# Altium integrated library Res.IntLib: 445 symbols (part 2 of 2)
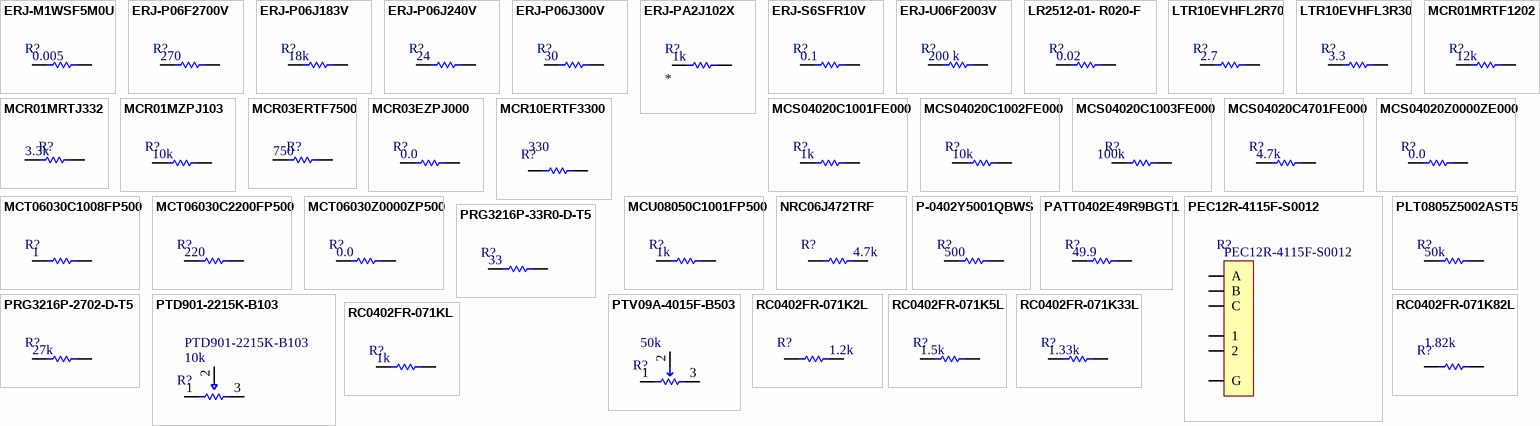
[diagram p12: symbols ERJ-M1WSF5M0U to RC0402FR-071KL]

## PTD901-2215K-B103
designator R?  value 10k  MPN: PTD901-2215K-B103  (hidden comment: *)
Potentiometer 10KOhms 20% 3P TH Center Detent PTD90 Series PANEL CONTROL 9MM-ST-CARBON 15mm Knurled Type Shaft; MFT: Bourns; APN: RV-103-X1-B; RATING: *; LOAD: *; TYPE: *
footprint BOURNS_PTD901
pins: 1 CCW, 2 WIPER, 3 CW

## PTV09A-4015F-B503
designator R?  value 50k  (hidden comment: *)
POT 50K OHM 1/20W CARBON LINEAR; MPN: PTV09A-4015F-B503; MFT: Bourns Inc.; RATING: 0.05W, 1/20W; TYPE: Through Hole, Snap In
footprint PTV09A-4015F-B503
pins: 1, 2, 3

## RC0402FR-071K2L
designator R?  value 1.2k  (hidden comment: *)
RES SMD 1.2K OHM 1% 1/16W 0402; MPN: RC0402FR-071K2L; MFT: Yageo; APN: *; RATING: 1/16W; LOAD: *; TYPE: SMD
footprint RESC1005X40N
pins: 1, 2

## RC0402FR-071K5L
designator R?  value 1.5k  (hidden comment: *)
RES SMD 1.5K OHM 1% 1/16W 0402; MPN: RC0402FR-071K5L; MFT: Yageo; APN: RQ-0154-R7-C; TYPE: SMD; RATING: 1% 1/16W; LOAD: *
footprint R0402
footprint RESC1005X40N
pins: 1, 2

## RC0402FR-071K33L
designator R?  value 1.33k  (hidden comment: *)
RES SMD 1.33K OHM 1% 1/16W 0402; MPN: RC0402FR-071K33L; MFT: Yageo; RATING: 0.063W, 1/16W; TYPE: Surface Mount
footprint R0402
pins: 1, 2

## RC0402FR-071K82L
designator R?  value 1.82k  (hidden comment: *)
RES SMD 1.82K OHM 1% 1/16W 0402; MPN: RC0402FR-071K82L; MFT: Yageo; TYPE: Surface Mount; RATING: 1% 1/16W
footprint R0402
pins: 1, 2

## RC0402FR-071KL
designator R?  value 1k  (hidden comment: *)
RES SMD 1K OHM 1% 1/16W 0402; MPN: RC0402FR-071KL; MFT: Yageo; RATING: 0.063W, 1/16W; TYPE: Surface Mount
footprint R0402
pins: 1, 2

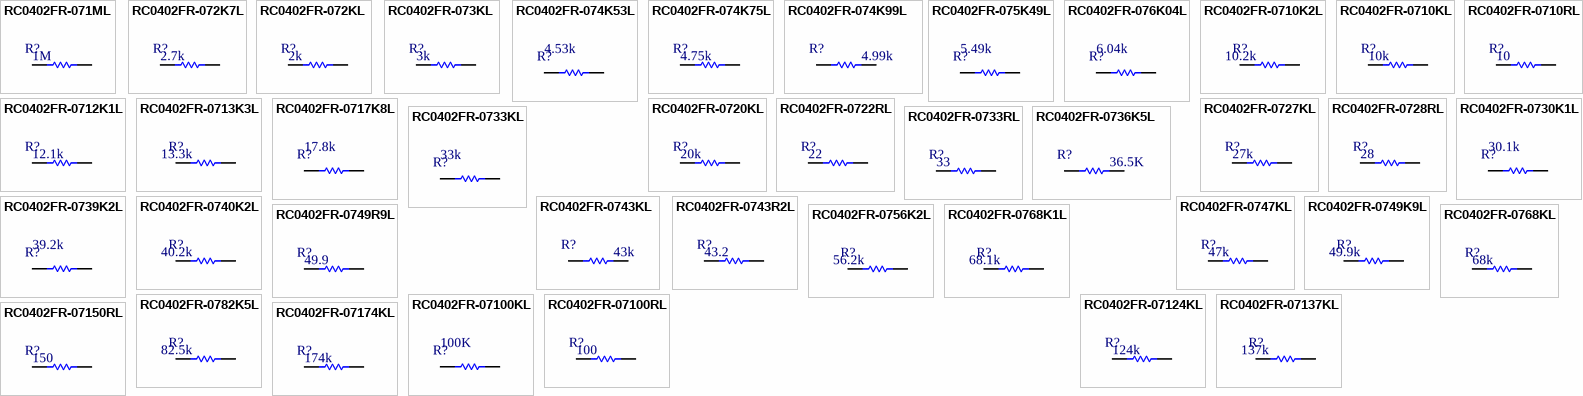
[diagram p6: symbols RC0402FR-071ML to RC0402FR-07174KL]

## RC0402FR-071ML
designator R?  value 1M  (hidden comment: *)
RES SMD 1M OHM 1% 1/16W 0402; MPN: RC0402FR-071ML; MFT: Yageo; TYPE: SMD; RATING: 1% 1/16W; LOAD: *
footprint R0402
pins: 1, 2

## RC0402FR-072K7L
designator R?  value 2.7k  (hidden comment: *)
RES SMD 2.7K OHM 1% 1/16W 0402; MPN: RC0402FR-072K7L; MFT: Yageo; TYPE: Surface Mount
footprint R0402
pins: 1, 2

## RC0402FR-072KL
designator R?  value 2k  (hidden comment: *)
RES SMD 2K OHM 1% 1/16W 0402; MPN: RC0402FR-072KL; MFT: Yageo; RATING: 1% 1/16W; TYPE: Surface Mount
footprint R0402
pins: 1, 2

## RC0402FR-073KL
designator R?  value 3k  (hidden comment: *)
RES SMD 3K OHM 1% 1/16W 0402; MPN: RC0402FR-073KL; MFT: Yageo; TYPE: Surface Mount; RATING: 1% 1/16W
footprint R0402
pins: 1, 2

## RC0402FR-074K53L
designator R?  value 4.53k  (hidden comment: *)
RES SMD 4.53K OHM 1% 1/16W 0402; MPN: RC0402FR-074K53L; MFT: Yageo; RATING: 1% 1/16W; TYPE: Surface Mount
footprint R0402
pins: 1, 2

## RC0402FR-074K75L
designator R?  value 4.75k  (hidden comment: *)
RES SMD 4.75K OHM 1% 1/16W 0402; MPN: RC0402FR-074K75L; MFT: Yageo; LOAD: *; TYPE: SMD; RATING: 1/16W
footprint R0402
pins: 1, 2

## RC0402FR-074K99L
designator R?  value 4.99k  (hidden comment: *)
RES SMD 4.99K OHM 1% 1/16W 0402; MPN: RC0402FR-074K99L; MFT: Yageo; LOAD: *; TYPE: SMD; RATING: 1/16W
footprint R0402
pins: 1, 2

## RC0402FR-075K49L
designator R?  value 5.49k  (hidden comment: *)
RES SMD 5.49K OHM 1% 1/16W 0402; MPN: RC0402FR-075K49L; MFT: Yageo; RATING: 1% 1/16W; TYPE: Surface Mount
footprint R0402
pins: 1, 2

## RC0402FR-076K04L
designator R?  value 6.04k  (hidden comment: *)
RES SMD 6.04K OHM 1% 1/16W 0402; MPN: RC0402FR-076K04L; MFT: Yageo; RATING: ±1%; TYPE: Surface Mount
footprint R0402
pins: 1, 2

## RC0402FR-0710K2L
designator R?  value 10.2k  (hidden comment: *)
RES SMD 10.2K OHM 1% 1/16W 0402; MPN: RC0402FR-0710K2L; MFT: Yageo; TYPE: SMD; RATING: 1/16W; LOAD: *
footprint R0402
pins: 1, 2

## RC0402FR-0710KL
designator R?  value 10k  (hidden comment: *)
RES SMD 10K OHM 1% 1/16W 0402; MPN: RC0402FR-0710KL; MFT: Yageo; RATING: ±1%; TYPE: Surface Mount
footprint R0402
pins: 1, 2

## RC0402FR-0710RL
designator R?  value 10  (hidden comment: *)
RES SMD 10 OHM 1% 1/16W 0402; MPN: RC0402FR-0710RL; MFT: Yageo; TYPE: SMD; RATING: 1% 1/16W; LOAD: *
footprint R0402
pins: 1, 2

## RC0402FR-0712K1L
designator R?  value 12.1k  (hidden comment: *)
RES SMD 12.1K OHM 1% 1/16W 0402; MPN: RC0402FR-0712K1L; MFT: Yageo; TYPE: SMD; RATING: 1% 1/16W; LOAD: *
footprint R0402
pins: 1, 2

## RC0402FR-0713K3L
designator R?  value 13.3k  (hidden comment: *)
RES SMD 13.3K OHM 1% 1/16W 0402; MPN: RC0402FR-0713K3L; MFT: Yageo; TYPE: SMD; RATING: 1/16W; LOAD: *
footprint R0402
pins: 1, 2

## RC0402FR-0717K8L
designator R?  value 17.8k  (hidden comment: *)
RES SMD 17.8K OHM 1% 1/16W 0402; MPN: RC0402FR-0717K8L; MFT: Yageo; TYPE: Surface Mount; RATING: 1%
footprint R0402
pins: 1, 2

## RC0402FR-0720KL
designator R?  value 20k  (hidden comment: *)
RES SMD 20K OHM 1% 1/16W 0402; MPN: RC0402FR-0720KL; RATING: 0.063W; MFT: Yageo; TYPE: Surface Mount
footprint R0402
pins: 1, 2

## RC0402FR-0722RL
designator R?  value 22  (hidden comment: *)
RES SMD 22 OHM 1% 1/16W 0402; MPN: RC0402FR-0722RL; MFT: Yageo; TYPE: SMD; RATING: 1% 1/16W; LOAD: *
footprint R0402
pins: 1, 2

## RC0402FR-0727KL
designator R?  value 27k  (hidden comment: *)
RES SMD 27K OHM 1% 1/16W 0402; MPN: RC0402FR-0727KL; MFT: Yageo; TYPE: SMD; RATING: 1% 1/16W; LOAD: *
footprint R0402
pins: 1, 2

## RC0402FR-0728RL
designator R?  value 28  (hidden comment: *)
RES SMD 28 OHM 1% 1/16W 0402; MPN: RC0402FR-0728RL; MFT: Yageo; TYPE: Surface Mount
footprint R0402
pins: 1, 2

## RC0402FR-0730K1L
designator R?  value 30.1k  (hidden comment: *)
RES SMD 30.1K OHM 1% 1/16W 0402; MPN: RC0402FR-0730K1L; MFT: Yageo; TYPE: Surface Mount
footprint R0402
pins: 1, 2

## RC0402FR-0733KL
designator R?  value 33k  (hidden comment: *)
RES SMD 33K OHM 1% 1/16W 0402; MPN: RC0402FR-0733KL; MFT: Yageo; RATING: 1% 1/16W; TYPE: Surface Mount
footprint R0402
pins: 1, 2

## RC0402FR-0733RL
designator R?  value 33  (hidden comment: *)
RES SMD 33 OHM 1% 1/16W 0402; MPN: RC0402FR-0733RL; MFT: Yageo; TYPE: Surface Mount
footprint R0402
pins: 1, 2

## RC0402FR-0736K5L
designator R?  value 36.5K  (hidden comment: *)
RES SMD 36.5K OHM 1% 1/16W 0402; MPN: RC0402FR-0736K5L; MFT: Yageo; LOAD: *; TYPE: SMD; RATING: 1/16W
footprint R0402
pins: 1, 2

## RC0402FR-0739K2L
designator R?  value 39.2k  (hidden comment: *)
RES SMD 39.2K OHM 1% 1/16W 0402; MPN: RC0402FR-0739K2L; MFT: Yageo; TYPE: Surfave Mount; RATING: 1% 1/16W
footprint R0402
pins: 1, 2

## RC0402FR-0740K2L
designator R?  value 40.2k  (hidden comment: *)
RES SMD 40.2K OHM 1% 1/16W 0402; MPN: RC0402FR-0740K2L; MFT: Yageo; TYPE: SMD; RATING: 1/16W; LOAD: *
footprint R0402
pins: 1, 2

## RC0402FR-0743KL
designator R?  value 43k  (hidden comment: *)
RES SMD 43K OHM 1% 1/16W 0402; MPN: RC0402FR-0743KL; MFT: Yageo; APN: RQ-0433-R7-C; RATING: 1/16W; LOAD: *; TYPE: SMD
footprint RESC1005X40N
pins: 1, 2

## RC0402FR-0743R2L
designator R?  value 43.2  (hidden comment: *)
RES SMD 43.2 OHM 1% 1/16W 0402; MPN: RC0402FR-0743R2L; MFT: Yageo; TYPE: SMD; RATING: 1/16W; LOAD: *
footprint R0402
pins: 1, 2

## RC0402FR-0747KL
designator R?  value 47k  (hidden comment: *)
RES SMD 47K OHM 1% 1/16W 0402; MPN: RC0402FR-0747KL; MFT: Yageo; APN: RQ-0473-R7-C; LOAD: *; TYPE: SMD; RATING: 1/16W
footprint R0402
footprint RESC1005X40N
pins: 1, 2

## RC0402FR-0749K9L
designator R?  value 49.9k  (hidden comment: *)
RES SMD 49.9K OHM 1% 1/16W 0402; MPN: RC0402FR-0749K9L; MFT: Yageo; TYPE: SMD; RATING: 1/16W; LOAD: *
footprint R0402
pins: 1, 2

## RC0402FR-0749R9L
designator R?  value 49.9  (hidden comment: *)
RES SMD 49.9 OHM 1% 1/16W 0402; MPN: RC0402FR-0749R9L; MFT: Yageo; RATING: ±1%; TYPE: Surface Mount
footprint R0402
pins: 1, 2

## RC0402FR-0756K2L
designator R?  value 56.2k  (hidden comment: *)
RES SMD 56.2K OHM 1% 1/16W 0402; MPN: RC0402FR-0756K2L; MFT: Yageo; TYPE: SMD; RATING: 1/16W; LOAD: *
footprint R0402
pins: 1, 2

## RC0402FR-0768K1L
designator R?  value 68.1k  (hidden comment: *)
RES SMD 68.1K OHM 1% 1/16W 0402; MPN: RC0402FR-0768K1L; MFT: Yageo; TYPE: SMD; RATING: 1/16W; LOAD: *
footprint R0402
pins: 1, 2

## RC0402FR-0768KL
designator R?  value 68k  (hidden comment: *)
RES SMD 68K OHM 1% 1/16W 0402; MPN: RC0402FR-0768KL; MFT: Yageo; RATING: 0.063W; TYPE: Surface Mount
footprint R0402
pins: 1, 2

## RC0402FR-0782K5L
designator R?  value 82.5k  (hidden comment: *)
RES SMD 82.5K OHM 1% 1/16W 0402; MPN: RC0402FR-0782K5L; MFT: Yageo; TYPE: SMD; RATING: 1/16W; LOAD: *
footprint R0402
pins: 1, 2

## RC0402FR-07100KL
designator R?  value 100K  (hidden comment: *)
RES SMD 100K OHM 1% 1/16W 0402; MPN: RC0402FR-07100KL; MFT: Yageo; TYPE: Surface Mount; RATING: 1% 1/16W
footprint R0402
pins: 1, 2

## RC0402FR-07100RL
designator R?  value 100  (hidden comment: *)
RES SMD 100 OHM 1% 1/16W 0402; MPN: RC0402FR-07100RL; MFT: Yageo; RATING: ±1%; TYPE: Surface Mount
footprint R0402
pins: 1, 2

## RC0402FR-07124KL
designator R?  value 124k  (hidden comment: *)
RES SMD 124K OHM 1% 1/16W 0402; MPN: RC0402FR-07124KL; MFT: Yageo; RATING: 1/16W; TYPE: SMD; LOAD: *
footprint R0402
pins: 1, 2

## RC0402FR-07137KL
designator R?  value 137k  (hidden comment: *)
RES SMD 137K OHM 1% 1/16W 0402; MPN: RC0402FR-07137KL; MFT: Yageo; TYPE: SMD; RATING: 1/16W; LOAD: *
footprint R0402
pins: 1, 2

## RC0402FR-07150RL
designator R?  value 150  (hidden comment: *)
RES SMD 150 OHM 1% 1/16W 0402; MPN: RC0402FR-07150RL; MFT: Yageo; RATING: ±1%; TYPE: Surface Mount
footprint R0402
pins: 1, 2

## RC0402FR-07174KL
designator R?  value 174k  (hidden comment: *)
RES SMD 174K OHM 1% 1/16W 0402; MPN: RC0402FR-07174KL; MFT: Yageo; RATING: 0.063W; TYPE: Surface Mount
footprint R0402
pins: 1, 2

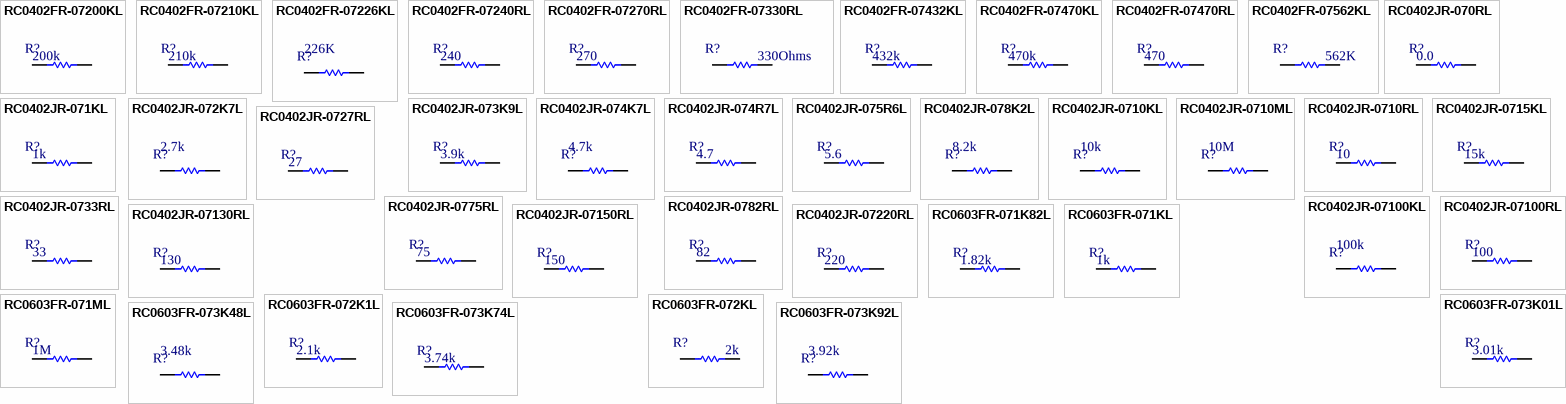
[diagram p7: symbols RC0402FR-07200KL to RC0603FR-073K92L]

## RC0402FR-07200KL
designator R?  value 200k  (hidden comment: *)
RES SMD 200K OHM 1% 1/16W 0402; MPN: RC0402FR-07200KL; MFT: Yageo; RATING: 0.063W, 1/16W; TYPE: Surface Mount
footprint R0402
pins: 1, 2

## RC0402FR-07210KL
designator R?  value 210k  (hidden comment: *)
RES SMD 210K OHM 1% 1/16W 0402; MPN: RC0402FR-07210KL; MFT: Yageo; TYPE: SMD; RATING: 1/16W; LOAD: *
footprint R0402
pins: 1, 2

## RC0402FR-07226KL
designator R?  value 226K  (hidden comment: *)
RES SMD 226K OHM 1% 1/16W 0402; MPN: RC0402FR-07226KL; MFT: Yageo; RATING: 1% 1/16W; TYPE: Surface Mount
footprint R0402
pins: 1, 2

## RC0402FR-07240RL
designator R?  value 240  (hidden comment: *)
RES SMD 240 OHM 1% 1/16W 0402; MPN: RC0402FR-07240RL; MFT: Yageo; TYPE: SMD; RATING: 1% 1/16W; LOAD: *
footprint R0402
pins: 1, 2

## RC0402FR-07270RL
designator R?  value 270  (hidden comment: *)
RES SMD 270 OHM 1% 1/16W 0402; MPN: RC0402FR-07270RL; MFT: Yageo; TYPE: Surface Mount
footprint R0402
pins: 1, 2

## RC0402FR-07330RL
designator R?  value 330Ohms  (hidden comment: *)
RES SMD 330 OHM 1% 1/16W 0402; MPN: RC0402FR-07330RL; MFT: Yageo; LOAD: *; TYPE: SMD; RATING: 1/16W
footprint R0402
pins: 1, 2

## RC0402FR-07432KL
designator R?  value 432k  (hidden comment: *)
RES SMD 432K OHM 1% 1/16W 0402; MPN: RC0402FR-07432KL; MFT: Yageo; RATING: 0.063W, 1/16W; TYPE: Surface Mount
footprint R0402
pins: 1, 2

## RC0402FR-07470KL
designator R?  value 470k  (hidden comment: *)
RES SMD 470K OHM 1% 1/16W 0402; MPN: RC0402FR-07470KL; MFT: Yageo; TYPE: SMD; RATING: 1% 1/16W; LOAD: *
footprint R0402
pins: 1, 2

## RC0402FR-07470RL
designator R?  value 470  (hidden comment: *)
RES SMD 470 OHM 1% 1/16W 0402; MPN: RC0402FR-07470RL; MFT: Yageo; TYPE: Surface Mount
footprint R0402
pins: 1, 2

## RC0402FR-07562KL
designator R?  value 562K  (hidden comment: *)
RES SMD 562K OHM 1% 1/16W 0402; MPN: RC0402FR-07562KL; MFT: Yageo; LOAD: *; TYPE: SMD; RATING: 1/16W
footprint R0402
pins: 1, 2

## RC0402JR-070RL
designator R?  value 0.0  (hidden comment: *)
RES SMD 0.0OHM JUMPER 1/16W 0402; MPN: RC0402JR-070RL; MFT: Yageo; TYPE: SMD/SMT
footprint R0402
pins: 1, 2

## RC0402JR-071KL
designator R?  value 1k  (hidden comment: *)
RES SMD 1K OHM 5% 1/16W 0402; MPN: RC0402JR-071KL; MFT: Yageo; RATING: ±5%; TYPE: Surface Mount
footprint R0402
pins: 1, 2

## RC0402JR-072K7L
designator R?  value 2.7k  (hidden comment: *)
RES SMD 2.7K OHM 5% 1/16W 0402; MPN: RC0402JR-072K7L; MFT: Yageo; RATING: ±5%; TYPE: Surface Mount
footprint R0402
pins: 1, 2

## RC0402JR-073K9L
designator R?  value 3.9k  (hidden comment: *)
RES SMD 3.9K OHM 5% 1/16W 0402; MPN: RC0402JR-073K9L; MFT: Yageo; LOAD: *; TYPE: SMD; RATING: 1/16W
footprint R0402
pins: 1, 2

## RC0402JR-074K7L
designator R?  value 4.7k  (hidden comment: *)
RES SMD 4.7K OHM 5% 1/16W 0402; MPN: RC0402JR-074K7L; MFT: Yageo; RATING: ±5%; TYPE: Surface Mount
footprint R0402
pins: 1, 2

## RC0402JR-074R7L
designator R?  value 4.7  (hidden comment: *)
RES SMD 4.7 OHM 5% 1/16W 0402; MPN: RC0402JR-074R7L; MFT: Yageo; TYPE: SMD; RATING: 1/16W; LOAD: *
footprint R0402
pins: 1, 2

## RC0402JR-075R6L
designator R?  value 5.6  (hidden comment: *)
RES SMD 5.6 OHM 5% 1/16W 0402; MPN: RC0402JR-075R6L; MFT: Yageo; TYPE: SMD; RATING: 5% 1/16W; LOAD: *
footprint R0402
pins: 1, 2

## RC0402JR-078K2L
designator R?  value 8.2k  (hidden comment: *)
RES SMD 8.2K OHM 5% 1/16W 0402; MPN: RC0402JR-078K2L; MFT: Yageo; RATING: ±5%; TYPE: Surface Mount
footprint R0402
pins: 1, 2

## RC0402JR-0710KL
designator R?  value 10k  (hidden comment: *)
RES SMD 10K OHM 5% 1/16W 0402; MPN: RC0402JR-0710KL; MFT: Yageo; TYPE: Surface Mount
footprint R0402
pins: 1, 2

## RC0402JR-0710ML
designator R?  value 10M  (hidden comment: *)
RES SMD 10M OHM 5% 1/16W 0402; MPN: RC0402JR-0710ML; MFT: Yageo; TYPE: Surface Mount
footprint R0402
pins: 1, 2

## RC0402JR-0710RL
designator R?  value 10  (hidden comment: *)
RES SMD 10 OHM 5% 1/16W 0402; MPN: RC0402JR-0710RL; MFT: Yageo; RATING: ±5%; TYPE: Surface Mount
footprint R0402
pins: 1, 2

## RC0402JR-0715KL
designator R?  value 15k  (hidden comment: *)
RES SMD 15K OHM 5% 1/16W 0402; MPN: RC0402JR-0715KL; MFT: Yageo; TYPE: Surface Mount
footprint R0402
pins: 1, 2

## RC0402JR-0727RL
designator R?  value 27  (hidden comment: *)
RES SMD 27 OHM 5% 1/16W 0402; MPN: RC0402JR-0727RL; MFT: Yageo; RATING: ±5%; TYPE: Surface Mount
footprint R0402
pins: 1, 2

## RC0402JR-0733RL
designator R?  value 33  (hidden comment: *)
RES SMD 33 OHM 5% 1/16W 0402; MPN: RC0402JR-0733RL; MFT: Yageo; TYPE: SMD; RATING: 5% 1/16W; LOAD: *
footprint R0402
pins: 1, 2

## RC0402JR-0775RL
designator R?  value 75  (hidden comment: *)
RES SMD 75 OHM 5% 1/16W 0402; MPN: RC0402JR-0775RL; MFT: Yageo; RATING: ±5%; TYPE: Surface Mount
footprint R0402
pins: 1, 2

## RC0402JR-0782RL
designator R?  value 82  (hidden comment: *)
RES SMD 82 OHM 5% 1/16W 0402; MPN: RC0402JR-0782RL; MFT: Yageo; RATING: ±5%; TYPE: Surface Mount
footprint R0402
pins: 1, 2

## RC0402JR-07100KL
designator R?  value 100k  (hidden comment: *)
RES SMD 100K OHM 5% 1/16W 0402; MPN: RC0402JR-07100KL; MFT: Yageo; TYPE: Surface Mount
footprint R0402
pins: 1, 2

## RC0402JR-07100RL
designator R?  value 100  (hidden comment: *)
RES SMD 100 OHM 5% 1/16W 0402; MPN: RC0402JR-07100RL; MFT: Yageo; RATING: ±5%; TYPE: Surface Mount
footprint R0402
pins: 1, 2

## RC0402JR-07130RL
designator R?  value 130  (hidden comment: *)
RES SMD 130 OHM 5% 1/16W 0402; MPN: RC0402JR-07130RL; MFT: Yageo; RATING: 5%; TYPE: Surface Mount
footprint R0402
pins: 1, 2

## RC0402JR-07150RL
designator R?  value 150  (hidden comment: *)
RES SMD 150 OHM 5% 1/16W 0402; MPN: RC0402JR-07150RL; MFT: Yageo; RATING: ±5%; TYPE: Surface Mount
footprint R0402
pins: 1, 2

## RC0402JR-07220RL
designator R?  value 220  (hidden comment: *)
RES SMD 220 OHM 5% 1/16W 0402; MPN: RC0402JR-07220RL; MFT: Yageo; LOAD: *; RATING: 1/16W; TYPE: SMD
footprint R0402
pins: 1, 2

## RC0603FR-071K82L
designator R?  value 1.82k  (hidden comment: *)
RES SMD 1.82K OHM 1% 1/10W 0603; MPN: RC0603FR-071K82L; MFT: Yageo; RATING: ±1%; TYPE: Surface Mount
footprint R0603
pins: 1, 2

## RC0603FR-071KL
designator R?  value 1k  (hidden comment: *)
RES SMD 1K OHM 1% 1/10W 0603; MPN: RC0603FR-071KL; MFT: Yageo; RATING: ±1%; TYPE: Surface Mount
footprint R0603
pins: 1, 2

## RC0603FR-071ML
designator R?  value 1M  (hidden comment: *)
RES SMD 1M OHM 1% 1/10W 0603; MPN: RC0603FR-071ML; MFT: Yageo; RATING: 0.1W, 1/10W; TYPE: Surface Mount
footprint R0603
pins: 1, 2

## RC0603FR-072K1L
designator R?  value 2.1k  (hidden comment: *)
RES SMD 2.1K OHM 1% 1/10W 0603; MPN: RC0603FR-072K1L; MFT: Yageo; RATING: ±1%; TYPE: Surface Mount
footprint R0603
pins: 1, 2

## RC0603FR-072KL
designator R?  value 2k  (hidden comment: *)
RES SMD 2K OHM 1% 1/10W 0603; MPN: RC0603FR-072KL; MFT: Yageo; LOAD: *; TYPE: SMD; RATING: 1/10W
footprint R0603
pins: 1, 2

## RC0603FR-073K01L
designator R?  value 3.01k  (hidden comment: *)
RES SMD 3.01K OHM 1% 1/10W 0603; MPN: RC0603FR-073K01L; MFT: Yageo; RATING: 0.1W, 1/10W; TYPE: Surface Mount
footprint R0603
pins: 1, 2

## RC0603FR-073K48L
designator R?  value 3.48k  (hidden comment: *)
RES SMD 3.48K OHM 1% 1/10W 0603; MPN: RC0603FR-073K48L; MFT: Yageo; RATING: ±1%; TYPE: Surface Mount
footprint R0603
pins: 1, 2

## RC0603FR-073K74L
designator R?  value 3.74k  (hidden comment: *)
RES SMD 3.74K OHM 1% 1/10W 0603; MPN: RC0603FR-073K74L; MFT: Yageo; RATING: ±1%; TYPE: Surface Mount
footprint R0603
pins: 1, 2

## RC0603FR-073K92L
designator R?  value 3.92k  (hidden comment: *)
RES SMD 3.92K OHM 1% 1/10W 0603; MPN: RC0603FR-073K92L; MFT: Yageo; RATING: ±1%; TYPE: Surface Mount
footprint R0603
pins: 1, 2

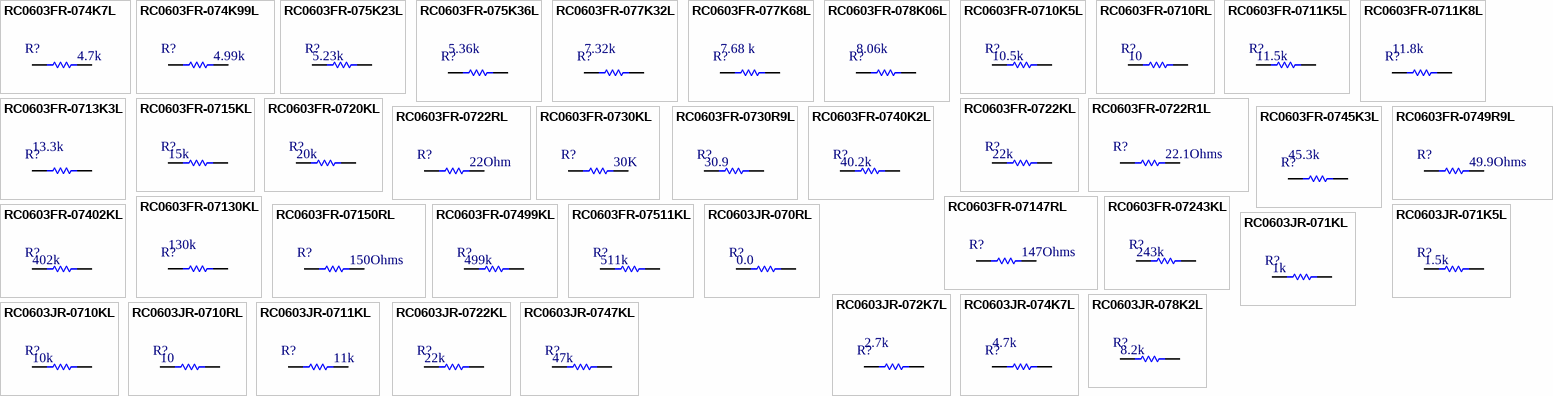
[diagram p8: symbols RC0603FR-074K7L to RC0603JR-0747KL]

## RC0603FR-074K7L
designator R?  value 4.7k  (hidden comment: *)
RES SMD 4.7K OHM 1% 1/10W 0603; MPN: RC0603FR-074K7L; MFT: Yageo; LOAD: *; TYPE: SMD; RATING: 1/10W
footprint R0603
pins: 1, 2

## RC0603FR-074K99L
designator R?  value 4.99k  (hidden comment: *)
RES SMD 4.99K OHM 1% 1/10W 0603; MPN: RC0603FR-074K99L; MFT: Yageo; LOAD: *; TYPE: SMD; RATING: 1/10W
footprint R0603
pins: 1, 2

## RC0603FR-075K23L
designator R?  value 5.23k  (hidden comment: *)
RES SMD 5.23K OHM 1% 1/10W 0603; MPN: RC0603FR-075K23L; MFT: Yageo; RATING: 0.1W, 1/10W; TYPE: Surface Mount
footprint R0603
pins: 1, 2

## RC0603FR-075K36L
designator R?  value 5.36k  (hidden comment: *)
RES SMD 5.36K OHM 1% 1/10W 0603; MPN: RC0603FR-075K36L; MFT: Yageo; RATING: ±1%
footprint R0603
pins: 1, 2

## RC0603FR-077K32L
designator R?  value 7.32k  (hidden comment: *)
RES SMD 7.32K OHM 1% 1/10W 0603; MPN: RC0603FR-077K32L; MFT: Yageo; RATING: ±1%; TYPE: Surface Mount
footprint R0603
pins: 1, 2

## RC0603FR-077K68L
designator R?  value 7.68 k  (hidden comment: *)
Thick Film Resistors - SMD Thick Film Resistors; MPN: RC0603FR-077K68L; MFT: Yageo; RATING: 1 %; TYPE: SMD/SMT
footprint R0603
pins: 1, 2

## RC0603FR-078K06L
designator R?  value 8.06k  (hidden comment: *)
RES SMD 8.06K OHM 1% 1/10W 0603; MPN: RC0603FR-078K06L; MFT: Yageo; RATING: ±1%; TYPE: Surface Mount
footprint R0603
pins: 1, 2

## RC0603FR-0710K5L
designator R?  value 10.5k  (hidden comment: *)
RES SMD 10.5K OHM 1% 1/10W 0603; MPN: RC0603FR-0710K5L; MFT: Yageo; RATING: ±1%; TYPE: Surface Mount
footprint R0603
pins: 1, 2

## RC0603FR-0710RL
designator R?  value 10  (hidden comment: *)
RES SMD 10 OHM 1% 1/10W 0603; MPN: RC0603FR-0710RL; MFT: Yageo; RATING: ±1%; TYPE: Surface Mount
footprint R0603
pins: 1, 2

## RC0603FR-0711K5L
designator R?  value 11.5k  (hidden comment: *)
RES SMD 11.5K OHM 1% 1/10W 0603; MPN: RC0603FR-0711K5L; MFT: Yageo; RATING: 0.1W, 1/10W; TYPE: Surface Mount
footprint R0603
pins: 1, 2

## RC0603FR-0711K8L
designator R?  value 11.8k  (hidden comment: *)
RES SMD 11.8K OHM 1% 1/10W 0603; MPN: RC0603FR-0711K8L; MFT: Yageo; RATING: ±1%; TYPE: Surface Mount
footprint R0603
pins: 1, 2

## RC0603FR-0713K3L
designator R?  value 13.3k  (hidden comment: *)
RES SMD 13.3K OHM 1% 1/10W 0603; MPN: RC0603FR-0713K3L; MFT: Yageo; RATING: ±1%; TYPE: Surface Mount
footprint R0603
pins: 1, 2

## RC0603FR-0715KL
designator R?  value 15k  (hidden comment: *)
RES SMD 15K OHM 1% 1/10W 0603; MPN: RC0603FR-0715KL; MFT: Yageo; RATING: ±1%; TYPE: Surface Mount
footprint R0603
pins: 1, 2

## RC0603FR-0720KL
designator R?  value 20k  (hidden comment: *)
RES SMD 20K OHM 1% 1/10W 0603; MPN: RC0603FR-0720KL; MFT: Yageo; TYPE: Surface Mount
footprint R0603
pins: 1, 2

## RC0603FR-0722KL
designator R?  value 22k  (hidden comment: *)
RES SMD 22K OHM 1% 1/10W 0603; MPN: RC0603FR-0722KL; MFT: Yageo; TYPE: SMD; RATING: 1% 1/10W
footprint R0603
pins: 1, 2

## RC0603FR-0722R1L
designator R?  value 22.1Ohms  (hidden comment: *)
RES SMD 22.1 OHM 1% 1/10W 0603; MPN: RC0603FR-0722R1L; MFT: Yageo; LOAD: *; TYPE: SMD; RATING: 1/10W
footprint R0603
pins: 1, 2

## RC0603FR-0722RL
designator R?  value 22Ohm  (hidden comment: *)
RES SMD 22 OHM 1% 1/10W 0603; MPN: RC0603FR-0722RL; MFT: Yageo; LOAD: *; TYPE: SMD; RATING: 1/10W
footprint R0603
pins: 1, 2

## RC0603FR-0730KL
designator R?  value 30K  (hidden comment: *)
RES SMD 30K OHM 1% 1/10W 0603; MPN: RC0603FR-0730KL; MFT: Yageo; LOAD: *; TYPE: SMD; RATING: 1/10W
footprint R0603
pins: 1, 2

## RC0603FR-0730R9L
designator R?  value 30.9  (hidden comment: *)
RES SMD 30.9 OHM 1% 1/10W 0603; MPN: RC0603FR-0730R9L; MFT: Yageo; RATING: 0.1W, 1/10W; TYPE: Surface Mount
footprint R0603
pins: 1, 2

## RC0603FR-0740K2L
designator R?  value 40.2k  (hidden comment: *)
RES SMD 40.2K OHM 1% 1/10W 0603; MPN: RC0603FR-0740K2L; MFT: Yageo; RATING: ±1%; TYPE: Surface Mount
footprint R0603
pins: 1, 2

## RC0603FR-0745K3L
designator R?  value 45.3k  (hidden comment: *)
RES SMD 45.3K OHM 1% 1/10W 0603; MPN: RC0603FR-0745K3L; MFT: Yageo; RATING: ±1%; TYPE: Surface Mount
footprint R0603
pins: 1, 2

## RC0603FR-0749R9L
designator R?  value 49.9Ohms  (hidden comment: *)
RES SMD 49.9 OHM 1% 1/10W 0603; MPN: RC0603FR-0749R9L; MFT: Yageo; LOAD: *; TYPE: SMD; RATING: 1/10W
footprint R0603
pins: 1, 2

## RC0603FR-07130KL
designator R?  value 130k  (hidden comment: *)
RES SMD 130K OHM 1% 1/10W 0603; MPN: RC0603FR-07130KL; MFT: Yageo; RATING: ±1%; TYPE: Surface Mount
footprint R0603
pins: 1, 2

## RC0603FR-07147RL
designator R?  value 147Ohms  (hidden comment: *)
RES SMD 147 OHM 1% 1/10W 0603; MPN: RC0603FR-07147RL; MFT: Yageo; LOAD: *; TYPE: SMD; RATING: 1/10W
footprint R0603
pins: 1, 2

## RC0603FR-07150RL
designator R?  value 150Ohms  (hidden comment: *)
RES SMD 150 OHM 1% 1/10W 0603; MPN: RC0603FR-07150RL; MFT: Yageo; LOAD: *; TYPE: SMD; RATING: 1/10W
footprint R0603
pins: 1, 2

## RC0603FR-07243KL
designator R?  value 243k  (hidden comment: *)
RES SMD 243K OHM 1% 1/10W 0603; MPN: RC0603FR-07243KL; MFT: Yageo; RATING: 0.1W, 1/10W; TYPE: Surface Mount
footprint R0603
pins: 1, 2

## RC0603FR-07402KL
designator R?  value 402k  (hidden comment: *)
RES SMD 402K OHM 1% 1/10W 0603; MPN: RC0603FR-07402KL; MFT: Yageo; RATING: 0.1W, 1/10W; TYPE: Surface Mount
footprint R0603
pins: 1, 2

## RC0603FR-07499KL
designator R?  value 499k  (hidden comment: *)
RES SMD 499K OHM 1% 1/10W 0603; MPN: RC0603FR-07499KL; MFT: Yageo; TYPE: SMD; RATING: 1% 1/10W; LOAD: *
footprint R0603
pins: 1, 2

## RC0603FR-07511KL
designator R?  value 511k  (hidden comment: *)
RES SMD 511K OHM 1% 1/10W 0603; MPN: RC0603FR-07511KL; MFT: Yageo; RATING: ±1%; TYPE: Surface Mount
footprint R0603
pins: 1, 2

## RC0603JR-070RL
designator R?  value 0.0  (hidden comment: *)
RES SMD 0.0OHM JUMPER 1/10W 0603; MPN: RC0603JR-070RL; MFT: Yageo; TYPE: Surface Mount
footprint R0603
pins: 1, 2

## RC0603JR-071K5L
designator R?  value 1.5k  (hidden comment: *)
RES SMD 1.5K OHM 5% 1/10W 0603; MPN: RC0603JR-071K5L; MFT: Yageo; LOAD: *; RATING: 5% 1/10W; TYPE: SMD
footprint R0603
pins: 1, 2

## RC0603JR-071KL
designator R?  value 1k  (hidden comment: *)
RES SMD 1K OHM 5% 1/10W 0603; MPN: RC0603JR-071KL; MFT: Yageo; RATING: ±5%; TYPE: Surface Mount
footprint R0603
pins: 1, 2

## RC0603JR-072K7L
designator R?  value 2.7k  (hidden comment: *)
RES SMD 2.7K OHM 5% 1/10W 0603; MPN: RC0603JR-072K7L; MFT: Yageo; RATING: 5%; TYPE: Surface Mount
footprint R0603
pins: 1, 2

## RC0603JR-074K7L
designator R?  value 4.7k  (hidden comment: *)
RES SMD 4.7K OHM 5% 1/10W 0603; MPN: RC0603JR-074K7L; MFT: Yageo; RATING: ±5%; TYPE: Surface Mount
footprint R0603
pins: 1, 2

## RC0603JR-078K2L
designator R?  value 8.2k  (hidden comment: *)
RES SMD 8.2K OHM 5% 1/10W 0603; MPN: RC0603JR-078K2L; MFT: Yageo; LOAD: *; RATING: 5% 1/10W; TYPE: SMD
footprint R0603
pins: 1, 2

## RC0603JR-0710KL
designator R?  value 10k  (hidden comment: *)
RES SMD 10K OHM 5% 1/10W 0603; MPN: RC0603JR-0710KL; MFT: Yageo; RATING: ±5%; TYPE: Surface Mount
footprint R0603
pins: 1, 2

## RC0603JR-0710RL
designator R?  value 10  (hidden comment: *)
RES SMD 10 OHM 5% 1/10W 0603; MPN: RC0603JR-0710RL; MFT: Yageo; RATING: ±5%; TYPE: Surface Mount
footprint R0603
pins: 1, 2

## RC0603JR-0711KL
designator R?  value 11k  (hidden comment: *)
RES SMD 11K OHM 5% 1/10W 0603; MPN: RC0603JR-0711KL; MFT: Yageo; LOAD: *; TYPE: SMD; RATING: 1/10W
footprint R0603
pins: 1, 2

## RC0603JR-0722KL
designator R?  value 22k  (hidden comment: *)
RES SMD 22K OHM 5% 1/10W 0603; MPN: RC0603JR-0722KL; MFT: Yageo; RATING: ±5%; TYPE: Surface Mount
footprint R0603
pins: 1, 2

## RC0603JR-0747KL
designator R?  value 47k  (hidden comment: *)
RES SMD 47K OHM 5% 1/10W 0603; MPN: RC0603JR-0747KL; MFT: Yageo; LOAD: *; RATING: 5% 1/10W; TYPE: SMD
footprint R0603
pins: 1, 2

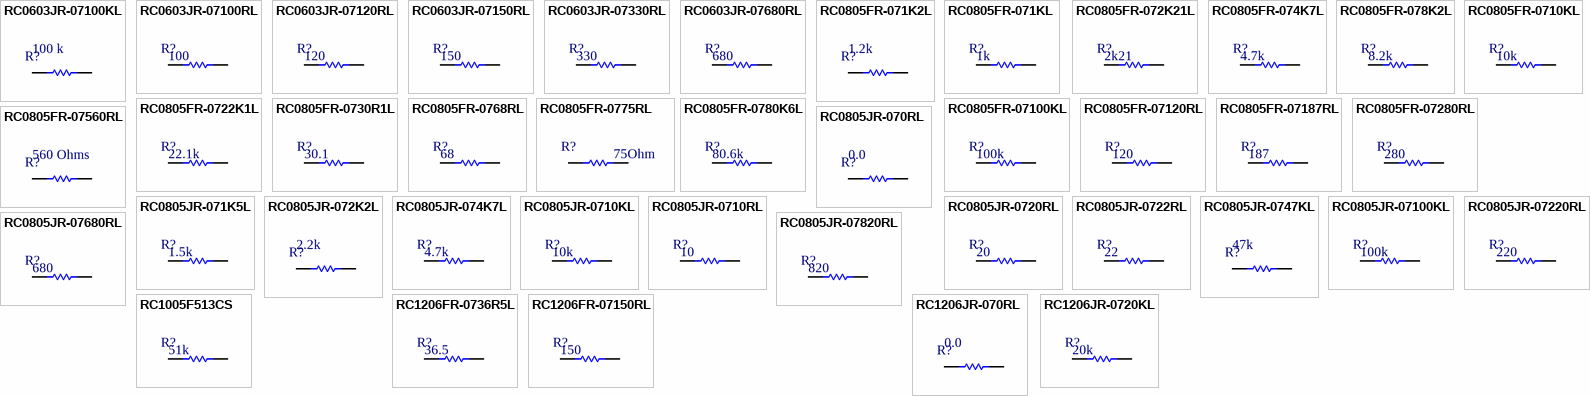
[diagram p9: symbols RC0603JR-07100KL to RC1206JR-0720KL]

## RC0603JR-07100KL
designator R?  value 100 k  (hidden comment: *)
Thick Film Resistors - SMD 100K OHM 5%; MPN: RC0603JR-07100KL; MFT: Yageo; RATING: 5%
footprint R0603
pins: 1, 2

## RC0603JR-07100RL
designator R?  value 100  (hidden comment: *)
RES SMD 100 OHM 5% 1/10W 0603; MPN: RC0603JR-07100RL; MFT: Yageo; RATING: 5%; TYPE: Surface Mount
footprint R0603
pins: 1, 2

## RC0603JR-07120RL
designator R?  value 120  (hidden comment: *)
RES SMD 120 OHM 5% 1/10W 0603; MPN: RC0603JR-07120RL; MFT: Yageo; LOAD: *; RATING: 5% 1/10W; TYPE: SMD
footprint R0603
pins: 1, 2

## RC0603JR-07150RL
designator R?  value 150  (hidden comment: *)
RES SMD 150 OHM 5% 1/10W 0603; MPN: RC0603JR-07150RL; MFT: Yageo; TYPE: SMD; RATING: 5% 1/10W; LOAD: *
footprint R0603
pins: 1, 2

## RC0603JR-07330RL
designator R?  value 330  (hidden comment: *)
RES SMD 330 OHM 5% 1/10W 0603; MPN: RC0603JR-07330RL; MFT: Yageo; LOAD: *; RATING: 5% 1/10W; TYPE: SMD
footprint R0603
pins: 1, 2

## RC0603JR-07680RL
designator R?  value 680  (hidden comment: *)
RES SMD 680 OHM 5% 1/10W 0603; MPN: RC0603JR-07680RL; MFT: Yageo; LOAD: *; RATING: 5% 1/10W; TYPE: SMD
footprint R0603
pins: 1, 2

## RC0805FR-071K2L
designator R?  value 1.2k  (hidden comment: *)
RES SMD 1.2K OHM 1% 1/8W 0805; MPN: RC0805FR-071K2L; MFT: Yageo; RATING: 1% 1/8W; TYPE: Surface Mount
footprint R0805
pins: 1, 2

## RC0805FR-071KL
designator R?  value 1k  (hidden comment: *)
RES SMD 1K OHM 1% 1/8W 0805; MPN: RC0805FR-071KL; MFT: Yageo; RATING: 1% 1/8W; TYPE: Surface Mount
footprint R0805
pins: 1, 2

## RC0805FR-072K21L
designator R?  value 2k21  (hidden comment: *)
RES SMD 2.21K OHM 1% 1/8W 0805; MPN: RC0805FR-072K21L; MFT: Yageo; LOAD: *; RATING: 1/8W; TYPE: SMD
footprint R0805
pins: 1, 2

## RC0805FR-074K7L
designator R?  value 4.7k  (hidden comment: *)
RES SMD 4.7K OHM 1% 1/8W 0805; MPN: RC0805FR-074K7L; MFT: Yageo; RATING: 1% 1/8W; TYPE: Surface Mount
footprint R0805
pins: 1, 2

## RC0805FR-078K2L
designator R?  value 8.2k  (hidden comment: *)
RES SMD 8.2K OHM 1% 1/8W 0805; MPN: RC0805FR-078K2L; MFT: Yageo; RATING: 1% 1/8W; TYPE: Surface Mount
footprint R0805
pins: 1, 2

## RC0805FR-0710KL
designator R?  value 10k  (hidden comment: *)
RES SMD 10K OHM 1% 1/8W 0805; MPN: RC0805FR-0710KL; MFT: Yageo; RATING: 1% 1/8W; TYPE: Surface Mount
footprint R0805
pins: 1, 2

## RC0805FR-0722K1L
designator R?  value 22.1k  (hidden comment: *)
RES SMD 22.1K OHM 1% 1/8W 0805; MPN: RC0805FR-0722K1L; MFT: Yageo; RATING: 1% 1/8W; TYPE: SMD; LOAD: *
footprint R0805
pins: 1, 2

## RC0805FR-0730R1L
designator R?  value 30.1  (hidden comment: *)
RES SMD 30.1 OHM 1% 1/8W 0805; MPN: RC0805FR-0730R1L; MFT: Yageo; RATING: 1/8W; LOAD: *; TYPE: SMD
footprint R0805
pins: 1, 2

## RC0805FR-0768RL
designator R?  value 68  (hidden comment: *)
RES SMD 68 OHM 1% 1/8W 0805; MPN: RC0805FR-0768RL; MFT: Yageo; RATING: 1% 1/8W; TYPE: Surface Mount
footprint R0805
pins: 1, 2

## RC0805FR-0775RL
designator R?  value 75Ohm  (hidden comment: *)
RES SMD 75 OHM 1% 1/8W 0805; MPN: RC0805FR-0775RL; MFT: Yageo; LOAD: *; TYPE: 1/8W; RATING: *
footprint R0805
pins: 1, 2

## RC0805FR-0780K6L
designator R?  value 80.6k  (hidden comment: *)
RES SMD 80.6K OHM 1% 1/8W 0805; MPN: RC0805FR-0780K6L; MFT: Yageo; RATING: 1% 1/8W; TYPE: SMD; LOAD: *
footprint R0805
pins: 1, 2

## RC0805FR-07100KL
designator R?  value 100k  (hidden comment: *)
RES SMD 100K OHM 1% 1/8W 0805; MPN: RC0805FR-07100KL; MFT: Yageo; RATING: 1% 1/8W; TYPE: Surface Mount
footprint R0805
pins: 1, 2

## RC0805FR-07120RL
designator R?  value 120  (hidden comment: *)
RES SMD 120 OHM 1% 1/8W 0805; MPN: RC0805FR-07120RL; MFT: Yageo; RATING: 1% 1/8W; TYPE: Surface Mount
footprint R0805
pins: 1, 2

## RC0805FR-07187RL
designator R?  value 187  (hidden comment: *)
RES SMD 187 OHM 1% 1/8W 0805; MPN: RC0805FR-07187RL; MFT: Yageo; RATING: 1/8W; LOAD: *; TYPE: SMD
footprint R0805
pins: 1, 2

## RC0805FR-07280RL
designator R?  value 280  (hidden comment: *)
RES SMD 280 OHM 1% 1/8W 0805; MPN: RC0805FR-07280RL; MFT: Yageo; LOAD: *; TYPE: SMD; RATING: 1/8W
footprint R0805
pins: 1, 2

## RC0805FR-07560RL
designator R?  value 560 Ohms  (hidden comment: *)
Thick Film Resistors - SMD 560 OHM 1%; MPN: RC0805FR-07560RL; MFT: Yageo; RATING: 125 mW (1/8 W) 1%; TYPE: SMD/SMT
footprint R0805
pins: 1, 2

## RC0805JR-070RL
designator R?  value 0.0  (hidden comment: *)
RES SMD 0.0 OHM JUMPER 1/8W 0805; MPN: RC0805JR-070RL; MFT: Yageo; TYPE: Surface Mount; RATING: 1/8W
footprint R0805
pins: 1, 2

## RC0805JR-071K5L
designator R?  value 1.5k  (hidden comment: *)
RES SMD 1.5K OHM 5% 1/8W 0805; MPN: RC0805JR-071K5L; MFT: Yageo; RATING: 5% 1/8W; TYPE: Surface Mount
footprint R0805
pins: 1, 2

## RC0805JR-072K2L
designator R?  value 2.2k  (hidden comment: *)
RES SMD 2.2K OHM 5% 1/8W 0805; MPN: RC0805JR-072K2L; MFT: Yageo; RATING: 5% 1/8W; TYPE: Surface Mount
footprint R0805
pins: 1, 2

## RC0805JR-074K7L
designator R?  value 4.7k  (hidden comment: *)
RES SMD 4.7K OHM 5% 1/8W 0805; MPN: RC0805JR-074K7L; MFT: Yageo; RATING: 5% 1/8W; TYPE: SMD; LOAD: *
footprint R0805
pins: 1, 2

## RC0805JR-0710KL
designator R?  value 10k  (hidden comment: *)
RES SMD 10K OHM 5% 1/8W 0805; MPN: RC0805JR-0710KL; MFT: Yageo; RATING: 5% 1/8W; TYPE: SMD; LOAD: *
footprint R0805
pins: 1, 2

## RC0805JR-0710RL
designator R?  value 10  (hidden comment: *)
RES SMD 10 OHM 5% 1/8W 0805; MPN: RC0805JR-0710RL; MFT: Yageo; RATING: 5% 1/8W; TYPE: SMD; LOAD: *
footprint R0805
pins: 1, 2

## RC0805JR-0720RL
designator R?  value 20  (hidden comment: *)
RES SMD 20 OHM 5% 1/8W 0805; MPN: RC0805JR-0720RL; MFT: Yageo; RATING: 5% 1/8W; TYPE: SMD; LOAD: *
footprint R0805
pins: 1, 2

## RC0805JR-0722RL
designator R?  value 22  (hidden comment: *)
RES SMD 22 OHM 5% 1/8W 0805; MPN: RC0805JR-0722RL; MFT: Yageo; RATING: 5% 1/8W; TYPE: SMD; LOAD: *
footprint R0805
pins: 1, 2

## RC0805JR-0747KL
designator R?  value 47k  (hidden comment: *)
RES SMD 47K OHM 5% 1/8W 0805; MPN: RC0805JR-0747KL; MFT: Yageo; RATING: 5% 1/8W; TYPE: Surface Mount
footprint R0805
pins: 1, 2

## RC0805JR-07100KL
designator R?  value 100k  (hidden comment: *)
RES SMD 100K OHM 5% 1/8W 0805; MPN: RC0805JR-07100KL; MFT: Yageo; RATING: 5% 1/8W; TYPE: SMD; LOAD: *
footprint R0805
pins: 1, 2

## RC0805JR-07220RL
designator R?  value 220  (hidden comment: *)
RES SMD 220 OHM 5% 1/8W 0805; MPN: RC0805JR-07220RL; MFT: Yageo; RATING: 5% 1/8W; TYPE: Surface Mount
footprint R0805
pins: 1, 2

## RC0805JR-07680RL
designator R?  value 680  (hidden comment: *)
RES SMD 680 OHM 5% 1/8W 0805; MPN: RC0805JR-07680RL; MFT: Yageo; RATING: 5% 1/8W; TYPE: Surface Mount
footprint R0805
pins: 1, 2

## RC0805JR-07820RL
designator R?  value 820  (hidden comment: *)
RES SMD 820 OHM 5% 1/8W 0805; MPN: RC0805JR-07820RL; MFT: Yageo; RATING: 5% 1/8W; TYPE: Surface Mount
footprint R0805
pins: 1, 2

## RC1005F513CS
designator R?  value 51k  (hidden comment: *)
RES SMD 51K OHM 1% 1/16W 0402; MPN: RC1005F513CS; MFT: Samsung Electro-Mechanics America, Inc; TYPE: Surface Mount
footprint R0402
pins: 1, 2

## RC1206FR-0736R5L
designator R?  value 36.5  (hidden comment: *)
RES SMD 36.5 OHM 1% 1/4W 1206; MPN: RC1206FR-0736R5L; MFT: Yageo; LOAD: *; TYPE: SMD; RATING: 1/4W
footprint R1206
pins: 1, 2

## RC1206FR-07150RL
designator R?  value 150  (hidden comment: *)
RES SMD 150 OHM 1% 1/4W 1206; MPN: RC1206FR-07150RL; MFT: Yageo; LOAD: *; RATING: 1/4W; TYPE: SMD
footprint R1206
pins: 1, 2

## RC1206JR-070RL
designator R?  value 0.0  (hidden comment: *)
RES SMD 0.0 OHM JUMPER 1/4W 1206; MPN: RC1206JR-070RL; MFT: Yageo; TYPE: Surface Mount
footprint R1206
pins: 1, 2

## RC1206JR-0720KL
designator R?  value 20k  (hidden comment: *)
RES SMD 20K OHM 5% 1/4W 1206; MPN: RC1206JR-0720KL; MFT: Yageo; RATING: 0.25W, 1/4W; TYPE: Surface Mount
footprint R1206
pins: 1, 2

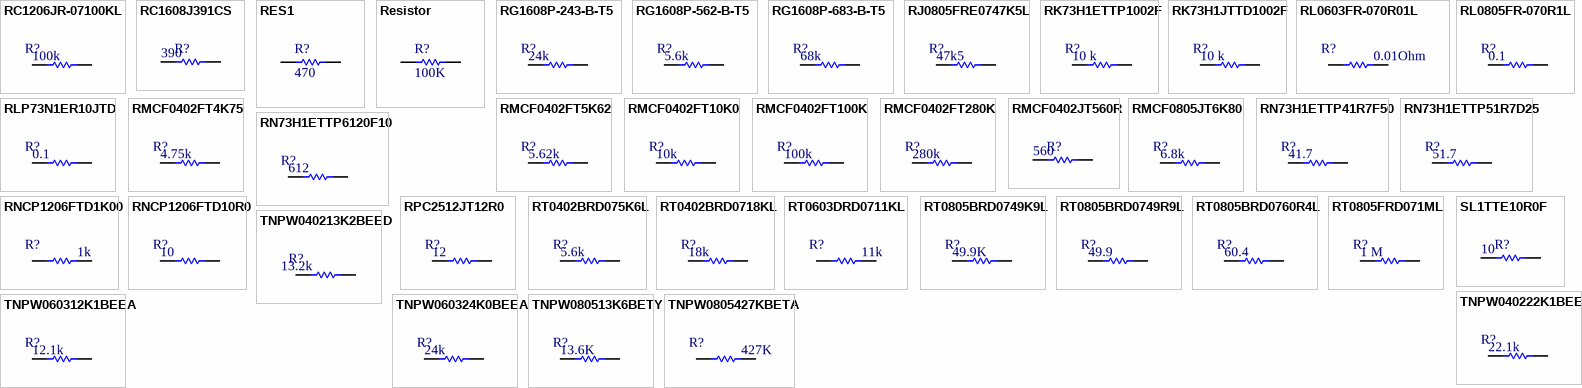
[diagram p10: symbols RC1206JR-07100KL to TNPW0805427KBETA]

## RC1206JR-07100KL
designator R?  value 100k  (hidden comment: *)
RES SMD 100K OHM 5% 1/4W 1206; MPN: RC1206JR-07100KL; MFT: Yageo; RATING: 5% 1/4W; TYPE: SMD; LOAD: *
footprint R1206
pins: 1, 2

## RC1608J391CS
designator R?  value 390  (hidden comment: RC1608J391CS)
RES 390 OHM 1/10W 5% 0603; MFT: Samsung Electro-Mechanics America, Inc; RATING: 0.1W, 1/10W; MPN: RC1608J391CS; TYPE: Surface Mount
footprint R0603
pins: 1, 2

## RES1
designator R?, comment value 470  (hidden comment: Resistor)
footprint R0603
pins: 1, 2

## Resistor
designator R?  value 100K  (hidden comment: Resistor)
footprint R0603
pins: 1, 2

## RG1608P-243-B-T5
designator R?  value 24k  (hidden comment: *)
RES SMD 24K OHM 0.1% 1/10W 0603; MPN: RG1608P-243-B-T5; MFT: Susumu; RATING: 0.1W, 1/10W; TYPE: Surface Mount
footprint R0603
pins: 1, 2

## RG1608P-562-B-T5
designator R?  value 5.6k  (hidden comment: *)
RES SMD 5.6K OHM 0.1% 1/10W 0603; MPN: RG1608P-562-B-T5; MFT: Susumu; RATING: 0.1W, 1/10W; TYPE: Surface Mount
footprint R0603
pins: 1, 2

## RG1608P-683-B-T5
designator R?  value 68k  (hidden comment: *)
RES SMD 68K OHM 0.1% 1/10W 0603; MPN: RG1608P-683-B-T5; MFT: Susumu; RATING: 0.1W; TYPE: Surface Mount
footprint R0603
pins: 1, 2

## RJ0805FRE0747K5L
designator R?  value 47k5  (hidden comment: *)
Yageo Thick Film Surface Mount Resistor 0805 Case 47500 1% 0.125W 50ppm/C; MPN: RJ0805FRE0747K5L; MFT: Yageo; RATING: 0.125W; TYPE: SMD
footprint R0805
pins: 1, 2

## RK73H1ETTP1002F
designator R?  value 10 k  (hidden comment: *)
Thick Film Resistors - SMD 1/16watts 10Kohms 1%; MPN: RK73H1ETTP1002F; MFT: KOA Speer; TYPE: Surface Mount
footprint R0402
pins: 1, 2

## RK73H1JTTD1002F
designator R?  value 10 k  (hidden comment: *)
Thick Film Resistors - SMD 1/10watts 10Kohms 1%; MPN: RK73H1JTTD1002F; MFT: KOA Speer; TYPE: SMD/SMT; RATING: 1%
footprint R0603
pins: 1, 2

## RL0603FR-070R01L
designator R?  value 0.01Ohm  (hidden comment: *)
RES 0.01 OHM 1% 1/10W 0603; MPN: RL0603FR-070R01L; MFT: Yageo; LOAD: *; TYPE: SMD; RATING: 1/10W
footprint R0603
pins: 1, 2

## RL0805FR-070R1L
designator R?  value 0.1  (hidden comment: *)
RES SMD 0.1 OHM 1% 1/8W 0805; MPN: RL0805FR-070R1L; MFT: Yageo; RATING: 1% 1/8W; TYPE: Surface Mount
footprint R0805
pins: 1, 2

## RLP73N1ER10JTD
designator R?  value 0.1  (hidden comment: *)
RES SMD 0.1 OHM 5% 1/8W 0402; MPN: RLP73N1ER10JTD; MFT: TE Connectivity AMP Connectors; RATING: 5% 1/8W; TYPE: SMD; LOAD: *
footprint R0402
pins: 1, 2

## RMCF0402FT4K75
designator R?  value 4.75k  (hidden comment: *)
RES SMD 4.75K OHM 1% 1/16W 0402; MPN: RMCF0402FT4K75; MFT: Stackpole Electronics Inc.; TYPE: SMD; RATING: 1% 1/16W; LOAD: *
footprint R0402
pins: 1, 2

## RMCF0402FT5K62
designator R?  value 5.62k  (hidden comment: *)
RES SMD 5.62K OHM 1% 1/16W 0402; MPN: RMCF0402FT5K62; MFT: Stackpole Electronics Inc.; TYPE: SMD; RATING: 1% 1/16W; LOAD: *
footprint R0402
pins: 1, 2

## RMCF0402FT10K0
designator R?  value 10k  (hidden comment: *)
RES 10K OHM 1% 1/16W 0402; MPN: RMCF0402FT10K0; MFT: Stackpole Electronics; LOAD: *; RATING: 1/16W; TYPE: SMD
footprint R0402
pins: 1, 2

## RMCF0402FT100K
designator R?  value 100k  (hidden comment: *)
RES SMD 100K OHM 1% 1/16W 0402; MPN: RMCF0402FT100K; MFT: Stackpole Electronics Inc.; TYPE: SMD; RATING: 1% 1/16W; LOAD: *
footprint R0402
pins: 1, 2

## RMCF0402FT280K
designator R?  value 280k  (hidden comment: *)
RES SMD 280K OHM 1% 1/16W 0402; MPN: RMCF0402FT280K; MFT: Stackpole Electronics Inc.; TYPE: SMD; RATING: 1% 1/16W; LOAD: *
footprint R0402
pins: 1, 2

## RMCF0402JT560R
designator R?  value 560  (hidden comment: RMCF0402JT560R)
RES SMD 560 OHM 5% 1/16W 0402; MFT: Stackpole Electronics Inc; RATING: 0.063W, 1/16W; MPN: RMCF0402JT560R; TYPE: Surface Mount
footprint R0402
pins: 1, 2

## RMCF0805JT6K80
designator R?  value 6.8k  (hidden comment: *)
RES SMD 6.8K OHM 5% 1/8W 0805; MPN: RMCF0805JT6K80; MFT: Stackpole Electronics Inc.; RATING: 5% 1/8W; TYPE: SMD; LOAD: *
footprint R0805
pins: 1, 2

## RN73H1ETTP41R7F50
designator R?  value 41.7  (hidden comment: *)
Thin Film Resistors - SMD 41.7Ohm,0402,1%,50pp m,63mW,50V; MPN: RN73H1ETTP41R7F50; MFT: KOA Speer; RATING: 63 mW; TYPE: Surface Mount
footprint R0402
pins: 1, 2

## RN73H1ETTP51R7D25
designator R?  value 51.7  (hidden comment: *)
Thin Film Resistors - SMD 51.7Ohm,0402,0.5%,25 ppm,63mW,50V; MPN: RN73H1ETTP51R7D25; MFT: KOA Speer; RATING: 63mW; TYPE: Surface Mount
pins: 1, 2

## RN73H1ETTP6120F10
designator R?  value 612  (hidden comment: *)
Thin Film Resistors - SMD 612Ohm,0402,1%,10ppm ,63mW,50V; MPN: RN73H1ETTP6120F10; MFT: KOA Speer; TYPE: Surface Mount; RATING: 63mW
footprint R0402
pins: 1, 2

## RNCP1206FTD1K00
designator R?  value 1k  (hidden comment: *)
RES 1K OHM 1% 1/2W 1206; MPN: RNCP1206FTD1K00; MFT: Stackpole Electronics; LOAD: *; RATING: 1/2W; TYPE: SMD
footprint R1206
pins: 1, 2

## RNCP1206FTD10R0
designator R?  value 10  (hidden comment: *)
RES 10 OHM 1% 1/2W 1206; MPN: RNCP1206FTD10R0; MFT: Stackpole Electronics; TYPE: SMD; LOAD: *; RATING: 1/2W
footprint R1206
pins: 1, 2

## RPC2512JT12R0
designator R?  value 12  (hidden comment: *)
RES SMD 12 OHM 5% 1.5W 2512; MPN: RPC2512JT12R0; MFT: Stackpole Electronics Inc.; RATING: 1.5W; TYPE: Surface Mount
footprint R2512
pins: 1, 2

## RT0402BRD075K6L
designator R?  value 5.6k  (hidden comment: *)
RES SMD 5.6K OHM 0.1% 1/16W 0402; MPN: RT0402BRD075K6L; MFT: Yageo; LOAD: *; RATING: 1/16W; TYPE: SMD
footprint R0402
pins: 1, 2

## RT0402BRD0718KL
designator R?  value 18k  (hidden comment: *)
RES SMD 18K OHM 0.1% 1/16W 0402; MPN: RT0402BRD0718KL; MFT: Yageo; TYPE: SMD; RATING: 1/16W; LOAD: *
footprint R0402
pins: 1, 2

## RT0603DRD0711KL
designator R?  value 11k  (hidden comment: *)
RES SMD 11K OHM 0.5% 1/10W 0603; MPN: RT0603DRD0711KL; MFT: Yageo; RATING: 1/10W; LOAD: *; TYPE: SMD
footprint R0603
pins: 1, 2

## RT0805BRD0749K9L
designator R?  value 49.9K  (hidden comment: *)
RES SMD 49.9K OHM 0.1% 1/8W 0805; MPN: RT0805BRD0749K9L; MFT: Yageo; TYPE: SMD; LOAD: *; RATING: 1/8W
footprint R0805
pins: 1, 2

## RT0805BRD0749R9L
designator R?  value 49.9  (hidden comment: *)
RES SMD 49.9 OHM 0.1% 1/8W 0805; MPN: RT0805BRD0749R9L; MFT: Yageo; RATING: 1/8W; TYPE: SMD; LOAD: *
footprint R0805
pins: 1, 2

## RT0805BRD0760R4L
designator R?  value 60.4  (hidden comment: *)
RES SMD 60.4 OHM 0.1% 1/8W 0805; MPN: RT0805BRD0760R4L; MFT: Yageo; LOAD: *; TYPE: SMD; RATING: 1/8W
footprint R0805
pins: 1, 2

## RT0805FRD071ML
designator R?  value 1 M  (hidden comment: *)
Thin Film Resistors - SMD; MPN: RT0805FRD071ML; MFT: Yageo; RATING: 125 mW; Type: Surface Mount
footprint R0805
pins: 1, 2

## SL1TTE10R0F
designator R?  value 10  (hidden comment: SL1TTE10R0F)
Current Sense Resistors - SMD 1watts 10ohms 1%; MFT: KOA Speer; RATING: 1 W; MPN: SL1TTE10R0F; TYPE: Surface Mount
footprint R2512
pins: 1, 2

## TNPW040213K2BEED
designator R?  value 13.2k  (hidden comment: *)
RES SMD 13.2KOHM 0.1% 1/16W 0402; MPN: TNPW040213K2BEED; MFT: Vishay Dale; TYPE: SMD; RATING: 1/16W; LOAD: *
footprint R0402
pins: 1, 2

## TNPW040222K1BEED
designator R?  value 22.1k  (hidden comment: *)
Thin Film Resistors - SMD 22.1Kohms .1% 25ppm; MPN: TNPW040222K1BEED; MFT: Vishay; RATING: .1% 25ppm; TYPE: Surface Mount
footprint R0402
pins: 1, 2

## TNPW060312K1BEEA
designator R?  value 12.1k  (hidden comment: *)
RES SMD 12.1KOHM 0.1% 1/10W 0603; MPN: TNPW060312K1BEEA; MFT: Vishay Dale; RATING: 100mW; TYPE: Surface Mount
footprint R0603
pins: 1, 2

## TNPW060324K0BEEA
designator R?  value 24k  (hidden comment: *)
RES SMD 24K OHM 0.1% 1/10W 0603; MPN: TNPW060324K0BEEA; MFT: Vishay Dale; TYPE: SMD; RATING: 1/10W; LOAD: *
footprint R0603
pins: 1, 2

## TNPW080513K6BETY
designator R?  value 13.6K  (hidden comment: *)
Thin Film Resistors - SMD 13.6Kohms .1% 25ppm; MPN: TNPW080513K6BETY; MFT: Vishay; RATING: 125 mW; TYPE: SMD
footprint R0805
pins: 1, 2

## TNPW0805427KBETA
designator R?  value 427K  (hidden comment: *)
RES 427K OHM 0.1% 1/8W 0805; MPN: TNPW0805427KBETA; MFT: Vishay Dale; TYPE: SMD; LOAD: *; RATING: 1/8W
footprint R0805
pins: 1, 2

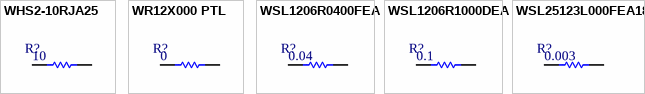
[diagram p11: symbols WHS2-10RJA25 to WSL25123L000FEA18]

## WHS2-10RJA25
designator R?  value 10  (hidden comment: *)
RES 10 OHM 2W 5% AXIAL; MPN: WHS2-10RJA25; MFT: TT Electronics/Welwyn; TYPE: Through Hole; RATING: 2 W
footprint WHS2(Resistor)
pins: 1, 2

## WR12X000 PTL
designator R?  value 0  (hidden comment: *)
Thick Film Resistors - SMD 0 Ohm Jumper 1206; MPN: WR12X000 PTL; MFT: Walsin; Type: Surface Mount
footprint R1206
pins: 1, 2

## WSL1206R0400FEA
designator R?  value 0.04  (hidden comment: *)
RES SMD 0.04 OHM 1% 1/4W 1206; MPN: WSL1206R0400FEA; MFT: Vishay Dale; RATING: 1% 1/4W; TYPE: SMD; LOAD: *
footprint R1206
pins: 1, 2

## WSL1206R1000DEA
designator R?  value 0.1  (hidden comment: *)
Current Sense Resistors - SMD 1/4watt .1ohms .5%; MPN: WSL1206R1000DEA; MFT: Vishay / Dale; RATING: 250 mW; TYPE: Surface Mount
footprint R1206
pins: 1, 2

## WSL25123L000FEA18
designator R?  value 0.003  (hidden comment: *)
RES SMD 0.003 OHM 1% 2W 2512; MPN: WSL25123L000FEA18; MFT: Vishay Dale; RATING: ±1%; TYPE: Surface mounnt
footprint R2512
pins: 1, 2